# EAGLE library part IR4426STRPBF (library sneecat_lib)
IR4426 Dual low side gate driver
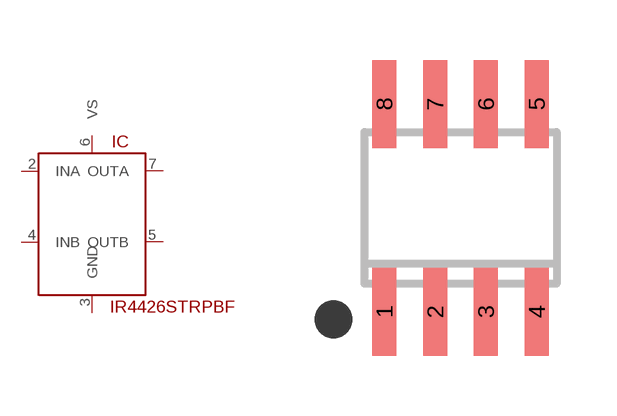
[diagram p0: symbol with the pads of SOIC8; footprint SOIC8]

Designator prefix IC

## IR4426STRPBFIR4426STRPBF  [SOIC8]
2  INA
3  GND
4  INB
5  OUTB
6  VS
7  OUTA

## Footprint SOIC8 (pad centres in mm)
Small Outline IC
smd 0.6 x 2.2: 1 -1.905,-2.6; 2 -0.635,-2.6; 3 0.635,-2.6; 4 1.905,-2.6; 5 1.905,2.6; 6 0.635,2.6; 7 -0.635,2.6; 8 -1.905,2.6